# EAGLE library part TPS61032 (library Misc ICs)
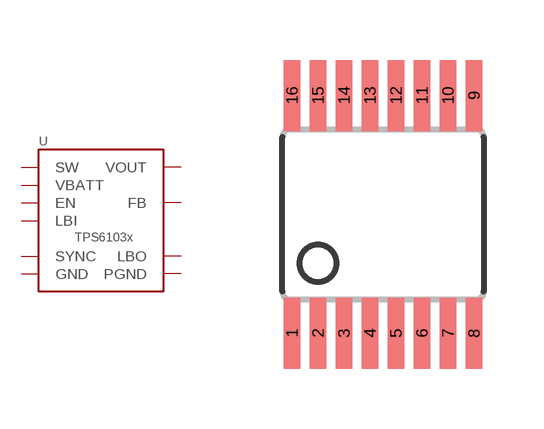
[diagram p3: symbol with the pads of TSSOP16L; footprint TSSOP16L]

Designator prefix -

## TPS61032  [TSSOP16L]
1  SW
2  SW
3  PGND  pwr
4  PGND  pwr
5  PGND  pwr
6  VBATT  pwr
7  LBI
8  SYNC
9  EN
10  LBO
11  GND  pwr
12  FB
13  VOUT  pwr
14  VOUT  pwr
15  VOUT  pwr

## Footprint TSSOP16L (pad centres in mm)
MOLDED TSSOP JEDEC, 5 x 4.4 x 9.9 mm Body 16 LD, 0.65mm Pitch Source: http://www.national.com/packaging/mkt/mtc16.pdf
smd 0.42 x 1.78: 1 -2.275,-2.97; 2 -1.625,-2.97; 3 -0.975,-2.97; 4 -0.325,-2.97; 5 0.325,-2.97; 6 0.975,-2.97; 7 1.625,-2.97; 8 2.275,-2.97; 9 2.275,2.97; 10 1.625,2.97; 11 0.975,2.97; 12 0.325,2.97; 13 -0.325,2.97; 14 -0.975,2.97; 15 -1.625,2.97; 16 -2.275,2.97